# EAGLE library part A070-804M2 (library saw-filters-narrowband)
A070-804M2 Параметр Ед. изм. Мин. значение Тип. значение Макс. значение Центральная частота МГц 803.75 804 804.25 Минимальное вносимое затухание дБ - 3.9 6 Полоса среза по уровню -3 дБ МГц 0.8 0.9 - Полоса среза по уровню -30 дБ МГц - 4 - Неравномерность АЧХ дБ - 1.2 3 Групповое время задержки нс - - - Гарантированное затухание дБ - 35 - Температурный диапазон °C -55 22 +85 Материал подложки - - Кварц 36 -
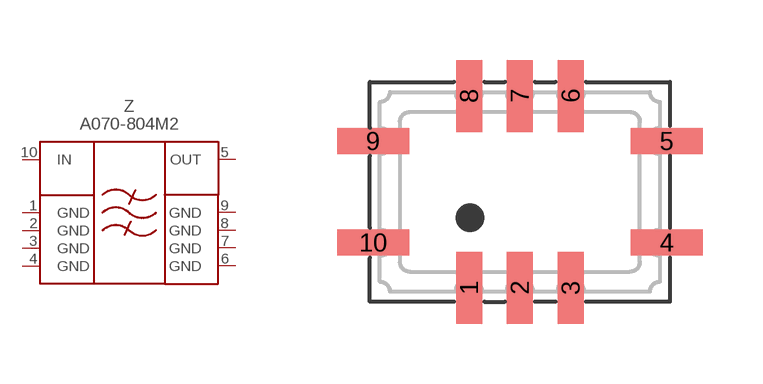
[diagram p135: symbol with the pads of QCC12B; footprint QCC12B]

Designator prefix Z

## A070-804M2  [QCC12B]
1  GND  pwr
2  GND  pwr
3  GND  pwr
4  GND  pwr
5  OUT  out
6  GND  pwr
7  GND  pwr
8  GND  pwr
9  GND  pwr
10  IN  in

## Footprint QCC12B (pad centres in mm)
smd 0.65 x 1.8: 1 -1.27,-2.402; 2 0,-2.402; 3 1.27,-2.402; 6 1.27,2.402; 7 0,2.402; 8 -1.27,2.402
smd 1.8 x 0.65: 4 3.672,-1.27; 5 3.672,1.27; 9 -3.672,1.27; 10 -3.672,-1.27